# Altium schematic symbol library 3FSH9.Schlib: 1 symbol
Pins are listed as number, name and electrical type; pins without a type are passive.

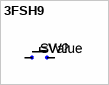
[diagram p0: symbol 3FSH9]

## 3FSH9
designator SW?
SWITCH, SPST-NO, 0.05A, 24V, SMD
pins: 1 A, 2, 3, 4